# EAGLE library part TDA7000 (library ads4)
Philips TDA7000 FM Receiver
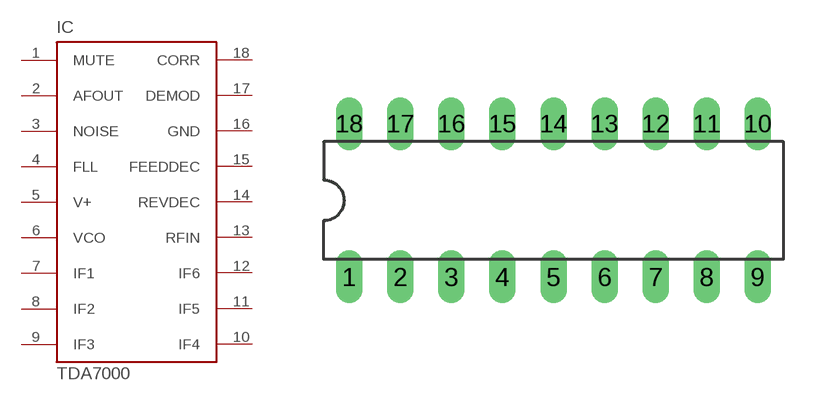
[diagram p43: symbol with the pads of DIL18; footprint DIL18]

Designator prefix IC

## TDA7000P  [DIL18]
1  MUTE  pas
2  AFOUT  pas
3  NOISE  pas
4  FLL  pas
5  V+  pwr
6  VCO  pas
7  IF1  pas
8  IF2  pas
9  IF3  pas
10  IF4  pas
11  IF5  pas
12  IF6  pas
13  RFIN  pas
14  REVDEC  pas
15  FEEDDEC  pas
16  GND  pwr
17  DEMOD  pas
18  CORR  pas

## Footprint DIL18 (pad centres in mm)
Dual In Line Package
drill 0.813 long: 1 -10.16,-3.81; 2 -7.62,-3.81; 3 -5.08,-3.81; 4 -2.54,-3.81; 5 0,-3.81; 6 2.54,-3.81; 7 5.08,-3.81; 8 7.62,-3.81; 9 10.16,-3.81; 10 10.16,3.81; 11 7.62,3.81; 12 5.08,3.81; 13 2.54,3.81; 14 0,3.81; 15 -2.54,3.81; 16 -5.08,3.81; 17 -7.62,3.81; 18 -10.16,3.81